# EAGLE library part A239-924M1 (library saw-filters-narrowband)
A239-924M1 Параметр Ед. изм. Мин. значение Тип. значение Макс. значение Центральная частота МГц 923.2 924 924.8 Минимальное вносимое затухание дБ 2.1 2.3 2.7 Полоса среза по уровню -3 дБ МГц 10.5 11 12 Полоса среза по уровню -25 дБ МГц 26.5 27 28 Неравномерность АЧХ дБ - 1 1.5 Групповое время задержки нс - - - Гарантированное затухание дБ - 40 - Температурный диапазон °C -55 22 +85 Материал подложки - - Танталат лития 36 -
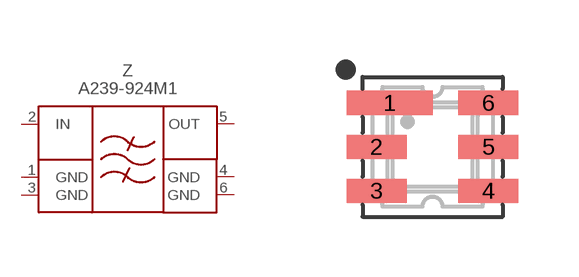
[diagram p114: symbol with the pads of DCC6; footprint DCC6]

Designator prefix Z

## A239-924M1  [DCC6]
1  GND  pwr
2  IN  in
3  GND  pwr
4  GND  pwr
5  OUT  out
6  GND  pwr

## Footprint DCC6 (pad centres in mm)
smd 2.15 x 0.6: 1 -1.075,1.1
smd 1.5 x 0.6: 2 -1.4,0; 3 -1.4,-1.1; 4 1.4,-1.1; 5 1.4,0; 6 1.4,1.1